# EAGLE library part DIGP-MAX5477 (library eagleLib v2)
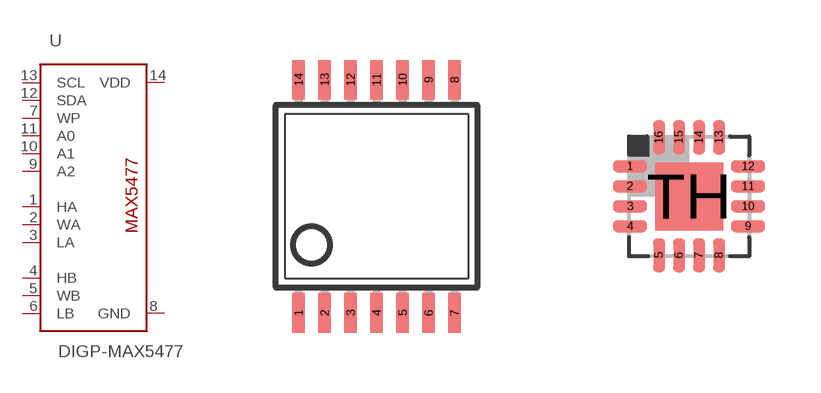
[diagram p27: symbol with the pads of TSSOP14; footprints TSSOP14, QFN16]

Designator prefix -

## DIGP-MAX5477-TS  [TSSOP14]
1  HA
2  WA
3  LA
4  HB
5  WB
6  LB
7  WP
8  GND
9  A2
10  A1
11  A0
12  SDA
13  SCL
14  VDD

## DIGP-MAX5477-QFN  [QFN16]
1  VDD
2  SCL
3  SDA
4  A0
5  A1
6  A2
7  GND
9  WP
10  LB
11  WB
12  HB
13  LA
14  WA
15  HA

## Footprint TSSOP14 (pad centres in mm)
Thin Shrink Small Outline Plastic 14 MAX3223-MAX3243.pdf
smd 0.305 x 0.991: 1 -1.95,-2.918; 2 -1.3,-2.918; 3 -0.65,-2.918; 4 0,-2.918; 5 0.65,-2.918; 6 1.3,-2.918; 7 1.95,-2.918; 8 1.95,2.918; 9 1.3,2.918; 10 0.65,2.918; 11 0,2.918; 12 -0.65,2.918; 13 -1.3,2.918; 14 -1.95,2.918

## Footprint QFN16 (pad centres in mm)
RTE (S-PQFP-N16) 3x3 mm Source: www.ti.com .. tpa6132a2 direct path stereo $.65.pdf
smd 0.85 x 0.3: 1 -1.475,0.75; 2 -1.475,0.25; 3 -1.475,-0.25; 4 -1.475,-0.75; 9 1.475,-0.75; 10 1.475,-0.25; 11 1.475,0.25; 12 1.475,0.75
smd 0.3 x 0.85: 5 -0.75,-1.475; 6 -0.25,-1.475; 7 0.25,-1.475; 8 0.75,-1.475; 13 0.75,1.475; 14 0.25,1.475; 15 -0.25,1.475; 16 -0.75,1.475
smd 1.7 x 1.7: TH 0,0